# Altium schematic symbol library ESDProtection.SchLib: 2 symbols
Pins are listed as number, name and electrical type; pins without a type are passive.

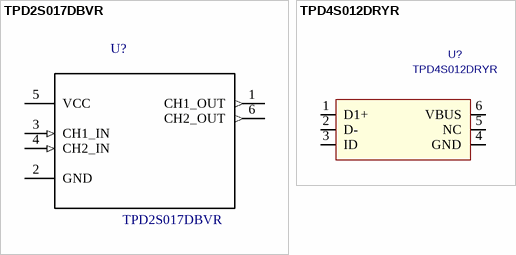
[diagram p0: symbols TPD2S017DBVR to TPD4S012DRYR]

## TPD2S017DBVR
designator U?
2-Channel Ultra Low Clamp Voltage ESD Solution with Series-Resistor Isolation 6-SOT-23 -40 to 85; MF: Texas Instruments; Price: 0.32 USD; MP: TPD2S017DBVR; SnapEDA_Link: https://www.snapeda.com/parts/TPD2S017DBVR/Texas%20Instruments/view-part/?ref=snap; Availability: Good; Package: SOT-23-6 Texas Instruments; Value: *
footprint TPD2S017
pins: 1 CH1_OUT (out), 2 GND, 3 CH1_IN (in), 4 CH2_IN (in), 5 VCC (power), 6 CH2_OUT (out)

## TPD4S012DRYR
designator U?
C: Copyright (C) 2015 Accelerated Designs. All rights reserved; Vendor: Texas Instruments; Built_By: EMA_UL_Team; Value: TPD4S012DRYR; Manufacturer_Part_Number: TPD4S012DRYR
footprint DRY6
pins: 1 D1+, 2 D-, 3 ID, 4 GND (power), 5 NC, 6 VBUS (power)